# Altium schematic symbol library bmp180.SchLib: 1 symbol
Pins are listed as number, name and electrical type; pins without a type are passive.

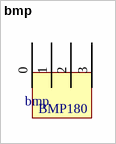
[diagram p0: symbol bmp]

## bmp
designator bmp  (value not drawn)
footprint bmp
pins: 0, 1, 2, 3
text: BMP180